# Altium schematic symbol library FTDI.SchLib: 3 symbols
Pins are listed as number, name and electrical type; pins without a type are passive.

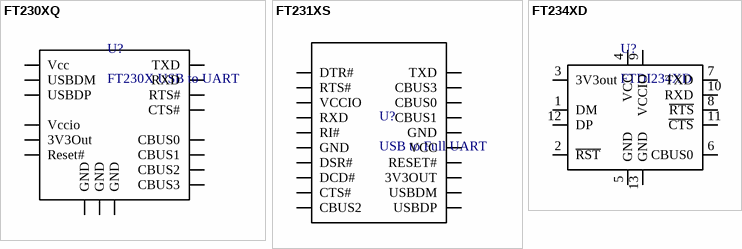
[diagram p0: symbols FT230XQ to FT234XD]

## FT230XQ
designator U?, comment FT230X USB to UART
Manufacturer: FTDI; Part Number: FT230XQ
footprint FT230XQ (QFN 16 4x4 0.65p)
pins: 1 Vccio, 2 RXD, 3 GND, 4 CTS#, 5 CBUS2, 6 USBDP, 7 USBDM, 8 3V3Out, 9 Reset#, 10 Vcc, 11 CBUS1, 12 CBUS0, 13 GND, 14 CBUS3, 15 TXD, 16 RTS#, 17 GND

## FT231XS
designator U?, comment USB to Full UART
footprint FT231XS
pins: 1 DTR#, 2 RTS#, 3 VCCIO, 4 RXD, 5 RI#, 6 GND, 7 DSR#, 8 DCD#, 9 CTS#, 10 CBUS2, 11 USBDP, 12 USBDM, 13 3V3OUT, 14 RESET#, 15 VCC, 16 GND, 17 CBUS1, 18 CBUS0, 19 CBUS3, 20 TXD

## FT234XD
designator U?, comment FTDI234XD
footprint FTDI234XD
pins: 1 DM, 2 ~{RST}, 3 3V3out, 4 VCC, 5 GND, 6 CBUS0, 7 TXD, 8 ~{RTS}, 9 VCCIO, 10 RXD, 11 ~{CTS}, 12 DP, 13 GND